# EAGLE library part LT3970 (library everykey)
Linear Tech 40Vin 350mA buck converter, very low quiescent current.
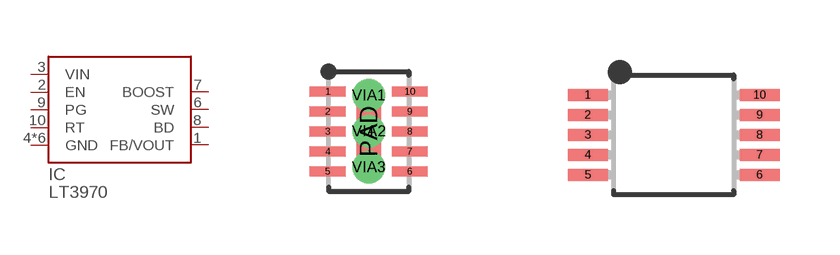
[diagram p67: symbol with the pads of DFN-10-0.5-EP-VIAS; footprints DFN-10-0.5-EP-VIAS, MSOP-10-0.5]

Designator prefix IC

## LT3970DDB  [DFN-10-0.5-EP-VIAS]
1  FB/VOUT  in
2  EN  in
3  VIN  pwr
4  GND  pwr
5  GND  pwr
6  SW  out
7  BOOST  in
8  BD  in
9  PG  out
10  RT  in
PAD  GND  pwr
VIA1  GND  pwr
VIA2  GND  pwr
VIA3  GND  pwr

## LT3970MS  [MSOP-10-0.5]
1  FB/VOUT  in
2  EN  in
3  VIN  pwr
4  GND  pwr
5  GND  pwr
6  SW  out
7  BOOST  in
8  BD  in
9  PG  out
10  RT  in

## Footprint DFN-10-0.5-EP-VIAS (pad centres in mm)
10 pin DFN, 0.5mm pitch, exposed pad with thermal vias. For 3x2mm Linear Tech DDB package.
smd 0.9 x 0.25: 1 -1.025,1; 2 -1.025,0.5; 3 -1.025,0; 4 -1.025,-0.5; 5 -1.025,-1; 6 1.025,-1; 7 1.025,-0.5; 8 1.025,0; 9 1.025,0.5; 10 1.025,1
smd 0.64 x 2.39: PAD 0,0
drill 0.305 pad 0.605: VIA1 0,0.9; VIA2 0,0; VIA3 0,-0.9

## Footprint MSOP-10-0.5 (pad centres in mm)
10-pin MSOP package, 0.5mm pitch
smd 1 x 0.3: 1 -2.15,1; 2 -2.15,0.5; 3 -2.15,0; 4 -2.15,-0.5; 5 -2.15,-1; 6 2.15,-1; 7 2.15,-0.5; 8 2.15,0; 9 2.15,0.5; 10 2.15,1